# EAGLE library part L5973D (library paparazzi)
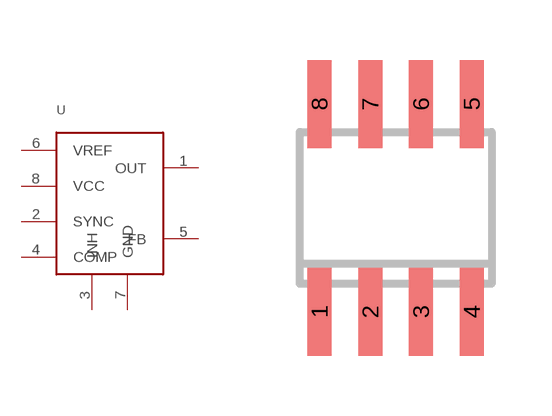
[diagram p29: symbol with the pads of SO08; footprint SO08]

Designator prefix -

## L5973D  [SO08]
1  OUT
2  SYNC
3  INH
4  COMP
5  FB
6  VREF
7  GND
8  VCC

## Footprint SO08 (pad centres in mm)
Small Outline Package 8
smd 0.6 x 2.2: 1 -1.905,-2.6; 2 -0.635,-2.6; 3 0.635,-2.6; 4 1.905,-2.6; 5 1.905,2.6; 6 0.635,2.6; 7 -0.635,2.6; 8 -1.905,2.6